# Altium footprint library NX2301.PcbLib: 1 footprints
Each footprint in its own frame and in the unit in brackets; x right, y up, seen from the top. Pads: shape width x height; smd on the part's side, far side on the other; paste and mask are expansions set on the pad; w line width, h text height; cw(c..) or ccw(c..) is an arc to the next point about the centre after c.
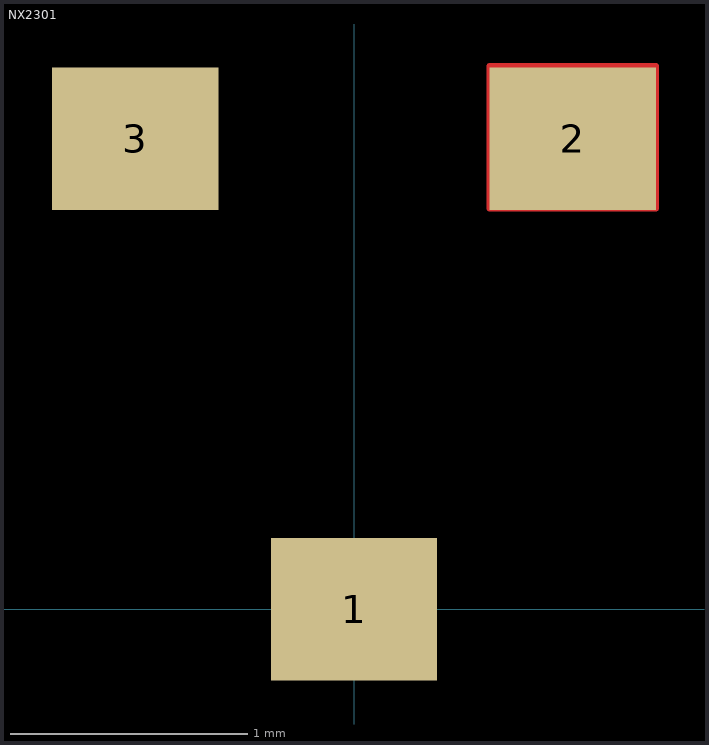
[diagram p0: the footprint, top view; thin cyan lines are the x and y axes]

## NX2301 [mm]
pads (3):
  rect 0.7x0.599 smd: 1(0,0) 2(0.92,1.979) 3(-0.92,1.979)
Top Layer:
  lines w0.025: 0.57,1.687 0.57,2.286 0.92,2.286 1.27,2.286 1.27,1.687 0.57,1.687